# Altium footprint library A6S-4104-H.PcbLib: 1 footprints
Each footprint in its own frame and in the unit in brackets; x right, y up, seen from the top. Pads: shape width x height; smd on the part's side, far side on the other; paste and mask are expansions set on the pad; w line width, h text height; cw(c..) or ccw(c..) is an arc to the next point about the centre after c.
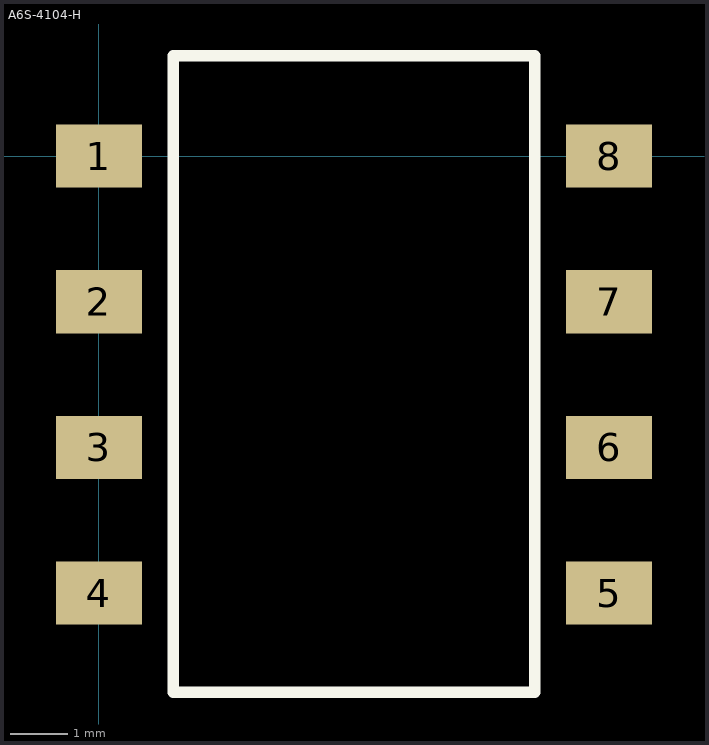
[diagram p0: the footprint, top view; thin cyan lines are the x and y axes]

## A6S-4104-H [mm]
pads (8):
  rect 1.5x1.1 smd: 1(0,0) 2(0,-2.54) 3(0,-5.08) 4(0,-7.62) 5(8.9,-7.62) 6(8.9,-5.08) 7(8.9,-2.54) 8(8.9,0)
Top Overlay:
  lines w0.2: 1.3,-9.35 7.6,-9.35 7.6,1.75 1.3,1.75 1.3,-9.35
3D body "A6S_4104_H.step": height 4.4, standoff 0, extent -0.45,-9.35 9.35,1.75